# EAGLE library part 74*165 (library we-chip)
74*165 8-Bit Parallel-Load Shift Register HC - VCC: 2-5.5V - Input: High 2.1V @ 3V / 3.5V @ 5V AHC - VCC: 2-5.5V - Input: 5V tolerant, High 2.1V @ 3V / 3.5V @ 5V HCT - VCC: 4.5-5.5V - Input: High 2V @ 5V AHCT - VCC: 4.5-5.5V - Input: High 2V @ 5V
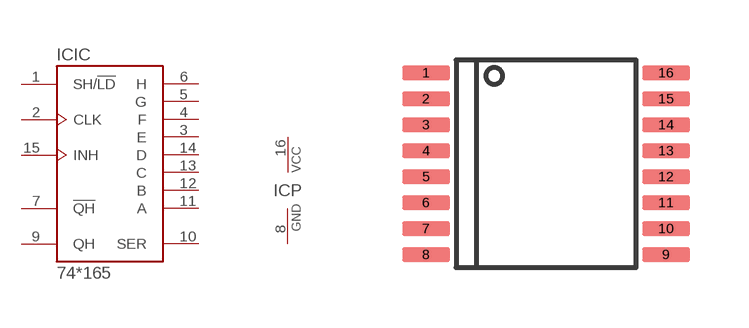
[diagram p44: symbol with the pads of TSSOP16; footprint TSSOP16]

Designator prefix IC; gates IC=74165 P=GATE_PWR

## 74HC165PW  [TSSOP16]
1  IC:SH/!LD  in
2  IC:CLK  in
3  IC:E  in
4  IC:F  in
5  IC:G  in
6  IC:H  in
7  IC:!QH  out
8  P:GND  pwr
9  IC:QH  out
10  IC:SER  in
11  IC:A  in
12  IC:B  in
13  IC:C  in
14  IC:D  in
15  IC:INH  in
16  P:VCC  pwr

## Footprint TSSOP16 (pad centres in mm)
smd 1.2 x 0.35: 1 -3,2.275; 2 -3,1.625; 3 -3,0.975; 4 -3,0.325; 5 -3,-0.325; 6 -3,-0.975; 7 -3,-1.625; 8 -3,-2.275; 9 3,-2.275; 10 3,-1.625; 11 3,-0.975; 12 3,-0.325; 13 3,0.325; 14 3,0.975; 15 3,1.625; 16 3,2.275